# Altium schematic symbol library INA241A2IDDFR.SchLib: 1 symbol
Pins are listed as number, name and electrical type; pins without a type are passive.

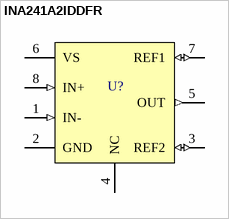
[diagram p0: symbol INA241A2IDDFR]

## INA241A2IDDFR
designator U?
-5-V to 110-V bidirectional ultra precise current sense amplifier with enhanced PWM rejection
pins: 1 IN- (in), 2 GND (power), 3 REF2 (io), 4 NC, 5 OUT (out), 6 VS (power), 7 REF1 (io), 8 IN+ (in)